# Altium schematic symbol library DCDC Up Requlators.SchLib: 1 symbol
Pins are listed as number, name and electrical type; pins without a type are passive.

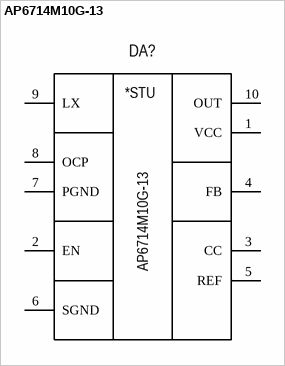
[diagram p0: symbol AP6714M10G-13]

## AP6714M10G-13
designator DA?
DCDC Up Reg 1A ADJ (0.9-5.5V); Manufacturer: Diodes Incorporated; Group: Power DCDC SMPS; Dimention: .0mm x .0mm; Component: DCDC SMPS; Package: MSOP-10; Part name: AP6714M10G-13; Height: .0mm; Mounting type: Surface mount; Operating temperature: -°C +°C
footprint MSOP-10
pins: 1 VCC "Power Input pin", 2 EN "Enable Channel", 3 CC "Channel Compensation Pin", 4 FB "Channel Feedback Pin", 5 REF "Internal Reference Voltage", 6 SGND "Signal Ground", 7 PGND "Power Ground", 8 OCP "Over Current Protection", 9 LX "SW Pin", 10 OUT "Boost Output Pin"
text: *STU